# Altium schematic symbol library resonator.SchLib: 3 symbols
Pins are listed as number, name and electrical type; pins without a type are passive.

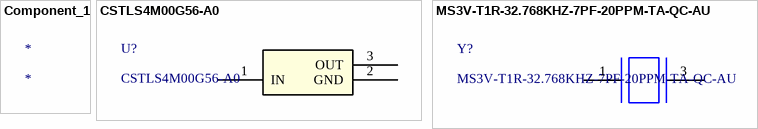
[diagram p0: symbols Component_1 to MS3V-T1R-32.768KHZ-7PF-20PPM-TA-QC-AU]

## Component_1
designator *

## CSTLS4M00G56-A0
designator U?
No Description Available; Vendor: Murata; Built_By: EMA_UL_Team; Manufacturer_Part_Number: CSTLS4M00G56-A0; Copyright: Copyright (C) 2018 Accelerated Designs. All rights reserved; RefDes: RefDes; Type: DEV; Value: Value
footprint CSTLS_G
pins: 1 IN, 2 GND, 3 OUT

## MS3V-T1R-32.768KHZ-7PF-20PPM-TA-QC-AU
designator Y?
No Description Available; Value: 32.768kHz 7pF; Manufacturer_Part_Number: MS3V-T1R-32.768KHZ-7PF-20PPM-TA-QC-AU
footprint MS3V-T1R-32.768KHZ-7PF-20PPM-TA-QC-AU
pins: 1 IN, 3 OUT